# EAGLE library part ADS1258 (library modular_robotics)
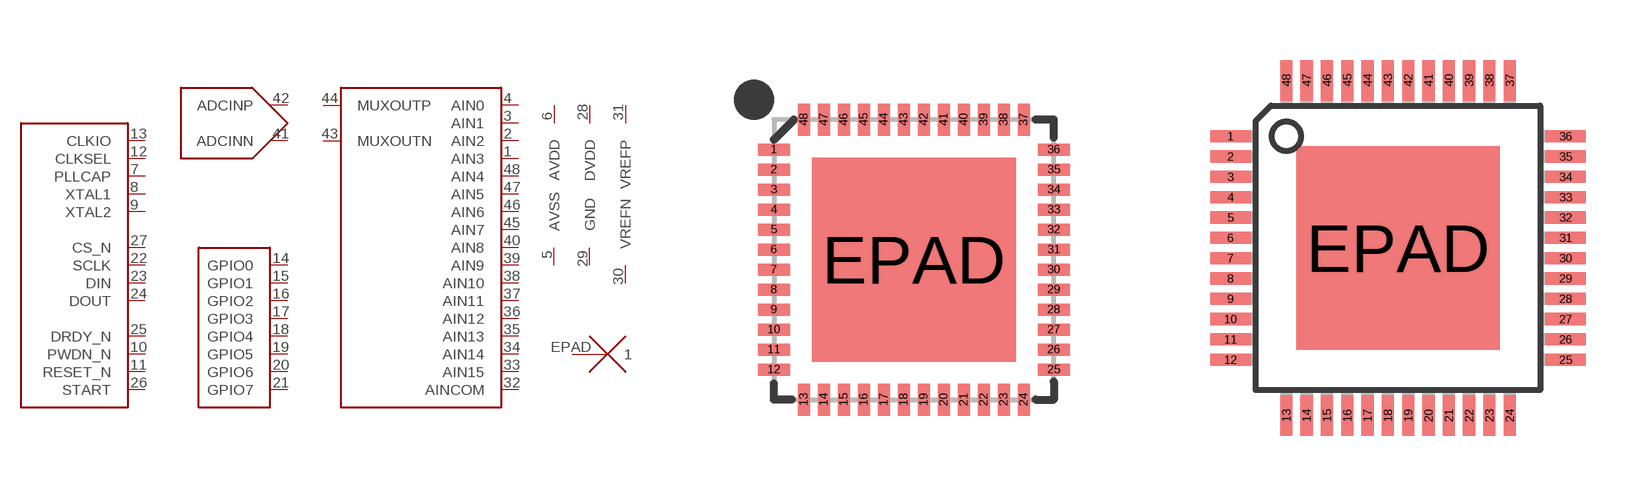
[diagram p10: symbol with the pads of QFN-48; footprints QFN-48, TQFP48]

Designator prefix -; gates ADC=ADS1258-ADC CTRL=ADS1258-CTRL MUX=ADS1258-MUX GPIO=ADS1258-GPIO AVDD-AVSS=AVDD-AVSS GND-DVDD=DVDD-GND VREFN-VREFP=VREFN-VREFP EPAD=PAD

## ADS1258-QFN  [QFN-48]
1  MUX:AIN3
2  MUX:AIN2
3  MUX:AIN1
4  MUX:AIN0
5  AVDD-AVSS:AVSS
6  AVDD-AVSS:AVDD
7  CTRL:PLLCAP
8  CTRL:XTAL1
9  CTRL:XTAL2
10  CTRL:PWDN_N
11  CTRL:RESET_N
12  CTRL:CLKSEL
13  CTRL:CLKIO
14  GPIO:GPIO0
15  GPIO:GPIO1
16  GPIO:GPIO2
17  GPIO:GPIO3
18  GPIO:GPIO4
19  GPIO:GPIO5
20  GPIO:GPIO6
21  GPIO:GPIO7
22  CTRL:SCLK
23  CTRL:DIN
24  CTRL:DOUT
25  CTRL:DRDY_N
26  CTRL:START
27  CTRL:CS_N
28  GND-DVDD:DVDD
29  GND-DVDD:GND
30  VREFN-VREFP:VREFN
31  VREFN-VREFP:VREFP
32  MUX:AINCOM
33  MUX:AIN15
34  MUX:AIN14
35  MUX:AIN13
36  MUX:AIN12
37  MUX:AIN11
38  MUX:AIN10
39  MUX:AIN9
40  MUX:AIN8
41  ADC:ADCINN
42  ADC:ADCINP
43  MUX:MUXOUTN
44  MUX:MUXOUTP
45  MUX:AIN7
46  MUX:AIN6
47  MUX:AIN5
48  MUX:AIN4
EPAD  EPAD:1

## ADS1258-TQFP  [TQFP48]
Pads as for QFN-48

## Footprint QFN-48 (pad centres in mm)
smd 0.8 x 0.3: 1 -3.5,2.75; 2 -3.5,2.25; 3 -3.5,1.75; 4 -3.5,1.25; 5 -3.5,0.75; 6 -3.5,0.25; 7 -3.5,-0.25; 8 -3.5,-0.75; 9 -3.5,-1.25; 10 -3.5,-1.75; 11 -3.5,-2.25; 12 -3.5,-2.75; 25 3.5,-2.75; 26 3.5,-2.25; 27 3.5,-1.75; 28 3.5,-1.25; 29 3.5,-0.75; 30 3.5,-0.25; 31 3.5,0.25; 32 3.5,0.75; 33 3.5,1.25; 34 3.5,1.75; 35 3.5,2.25; 36 3.5,2.75
smd 0.3 x 0.8: 13 -2.75,-3.5; 14 -2.25,-3.5; 15 -1.75,-3.5; 16 -1.25,-3.5; 17 -0.75,-3.5; 18 -0.25,-3.5; 19 0.25,-3.5; 20 0.75,-3.5; 21 1.25,-3.5; 22 1.75,-3.5; 23 2.25,-3.5; 24 2.75,-3.5; 37 2.75,3.5; 38 2.25,3.5; 39 1.75,3.5; 40 1.25,3.5; 41 0.75,3.5; 42 0.25,3.5; 43 -0.25,3.5; 44 -0.75,3.5; 45 -1.25,3.5; 46 -1.75,3.5; 47 -2.25,3.5; 48 -2.75,3.5
smd 5.1 x 5.1: EPAD 0,0

## Footprint TQFP48 (pad centres in mm)
Thin Plasic Quad Flat Package
smd 1.016 x 0.305: 1 -4.191,2.794; 2 -4.191,2.286; 3 -4.191,1.778; 4 -4.191,1.27; 5 -4.191,0.762; 6 -4.191,0.254; 7 -4.191,-0.254; 8 -4.191,-0.762; 9 -4.191,-1.27; 10 -4.191,-1.778; 11 -4.191,-2.286; 12 -4.191,-2.794; 25 4.191,-2.794; 26 4.191,-2.286; 27 4.191,-1.778; 28 4.191,-1.27; 29 4.191,-0.762; 30 4.191,-0.254; 31 4.191,0.254; 32 4.191,0.762; 33 4.191,1.27; 34 4.191,1.778; 35 4.191,2.286; 36 4.191,2.794
smd 0.305 x 1.016: 13 -2.794,-4.191; 14 -2.286,-4.191; 15 -1.778,-4.191; 16 -1.27,-4.191; 17 -0.762,-4.191; 18 -0.254,-4.191; 19 0.254,-4.191; 20 0.762,-4.191; 21 1.27,-4.191; 22 1.778,-4.191; 23 2.286,-4.191; 24 2.794,-4.191; 37 2.794,4.191; 38 2.286,4.191; 39 1.778,4.191; 40 1.27,4.191; 41 0.762,4.191; 42 0.254,4.191; 43 -0.254,4.191; 44 -0.762,4.191; 45 -1.27,4.191; 46 -1.778,4.191; 47 -2.286,4.191; 48 -2.794,4.191
smd 5.08 x 5.08: EPAD 0,0